# Altium footprint library SOP-6.PcbLib: 1 footprints
Each footprint in its own frame and in the unit in brackets; x right, y up, seen from the top. Pads: shape width x height; smd on the part's side, far side on the other; paste and mask are expansions set on the pad; w line width, h text height; cw(c..) or ccw(c..) is an arc to the next point about the centre after c.
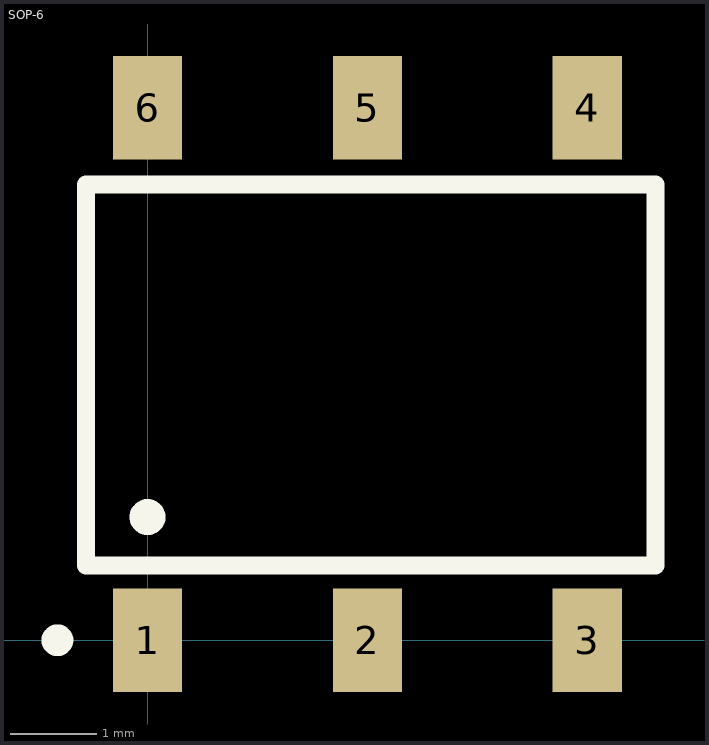
[diagram p0: the footprint, top view; thin cyan lines are the x and y axes]

## SOP-6 [mm]
pads (6):
  rect 0.8x1.2 smd: 1(0,0) 2(2.54,0) 3(5.08,0) 4(5.08,6.15) 5(2.54,6.15) 6(0,6.15)
Top Overlay:
  circle w0.254: c0,1.422 r0.08
  circle w0.254: c-1.041,0 r0.057
  lines w0.203: -0.711,0.864 -0.711,5.264 5.867,5.264 5.867,0.864 -0.711,0.864
3D body: height 2.12, standoff 0.02, extent -0.61,-0.452 5.69,6.548